# Altium schematic symbol library Lib.SchLib: 8 symbols
Pins are listed as number, name and electrical type; pins without a type are passive.

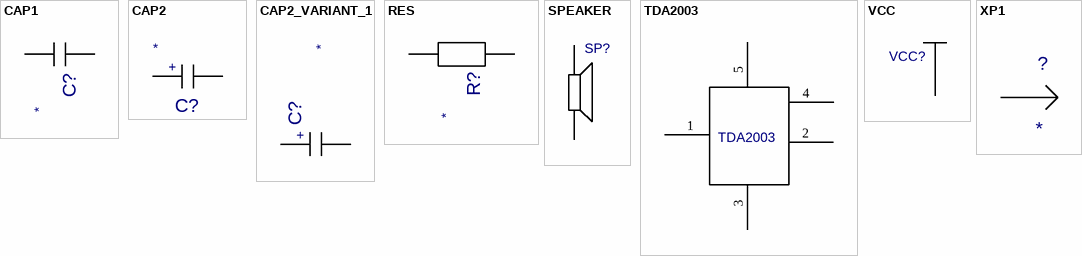
[diagram p0: symbols CAP1 to XP1]

## CAP1
designator C?  (value not drawn)
Value: *
footprint CAP1
pins: 1, 2

## CAP2
designator C?  (value not drawn)
Value: *
footprint CAP2
pins: 1, 2
text: +

## CAP2_VARIANT_1
designator C?, comment CAP2  (value not drawn)
CAP2_VARIANT_1; Value: *
footprint CAP2
pins: 1, 2
text: +

## RES
designator R?  (value not drawn)
Value: *
footprint RES
pins: 1, 2

## SPEAKER
designator SP?  (value not drawn)
Value: *
footprint CAP1
pins: 1, 2

## TDA2003
designator ?
Value: *
footprint TDA2003
pins: 1, 2, 3, 4, 5

## VCC
designator VCC?  (value not drawn)
Value: *
pins: 1 (power)

## XP1
designator ?  (value not drawn)
Value: *
footprint 1PAD
pins: 1 A1